# EAGLE library part HX1198NL (library OPL5)
10/100BASE-T Single Port Surface Mount Magnetics With Various Turns Ratios
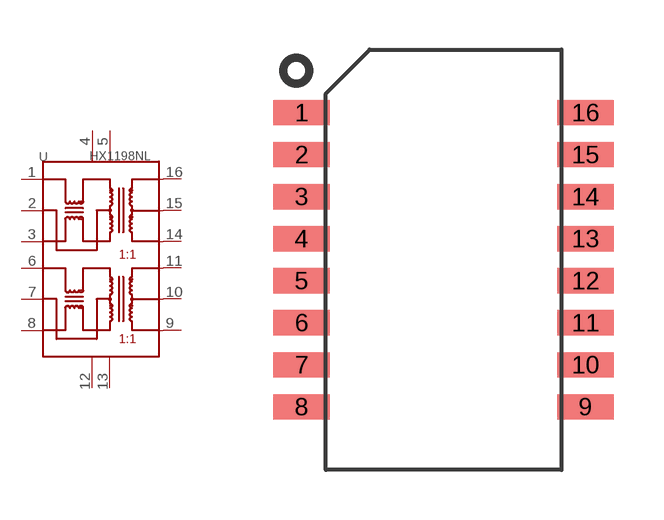
[diagram p21: symbol with the pads of SOIC16; footprint SOIC16]

Designator prefix U

## HX1198NL-0290010P1  [SOIC16]
1  1  pas
2  2  pas
3  3  pas
4  4  pas
5  5  pas
6  6  pas
7  7  pas
8  8  pas
9  9  pas
10  10  pas
11  11  pas
12  12  pas
13  13  pas
14  14  pas
15  15  pas
16  16  pas

## Footprint SOIC16 (pad centres in mm)
smd 1.714 x 0.762: 1 -4.286,4.445; 2 -4.286,3.175; 3 -4.286,1.905; 4 -4.286,0.635; 5 -4.286,-0.635; 6 -4.286,-1.905; 7 -4.286,-3.175; 8 -4.286,-4.445; 9 4.286,-4.445; 10 4.286,-3.175; 11 4.286,-1.905; 12 4.286,-0.635; 13 4.286,0.635; 14 4.286,1.905; 15 4.286,3.175; 16 4.286,4.445